# Altium schematic symbol library ATmega1284p_breakout.SchLib: 3 symbols
Pins are listed as number, name and electrical type; pins without a type are passive.

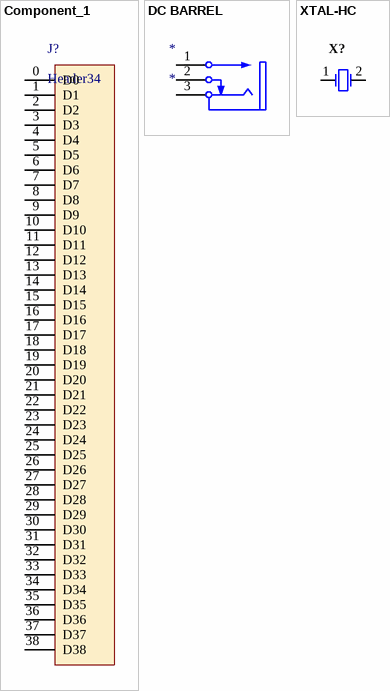
[diagram p0: symbols Component_1 to XTAL-HC]

## Component_1
designator J?, comment Header34
footprint Header35
pins: 0 D0, 1 D1, 2 D2, 3 D3, 4 D4, 5 D5, 6 D6, 7 D7, 8 D8, 9 D9, 10 D10, 11 D11, 12 D12, 13 D13, 14 D14, 15 D15, 16 D16, 17 D17, 18 D18, 19 D19, 20 D20, 21 D21, 22 D22, 23 D23, 24 D24, 25 D25, 26 D26, 27 D27, 28 D28, 29 D29, 30 D30, 31 D31, 32 D32, 33 D33, 34 D34, 35 D35, 36 D36, 37 D37, 38 D38

## DC BARREL
designator *
footprint BARREL
pins: 1, 2, 3

## XTAL-HC
designator X?
footprint Crystal
pins: 1, 2